# EAGLE library part 621X2021921 (library Board-to-Board (rev18a))
WR-PHD 2.00mm Dual SMT Pin Header, 20 Pins=>Code :WR-PHD_SMD_2,00mm_zweireihig621x2021921(packageing:x = 0: Tube x = 3: Tape & Reel with Cap) <http://katalog.we-online.de/media/images/eican/WR-PHD_SMD_2,00mm_zweireihig62103221921.jpg> 6210xx21921 Details see: http://katalog.we-online.de/en/em/621_0xx_219_21 6213xx21921 Details see: http://katalog.we-online.de/en/em/PHD_2_00_SMT_DUAL_PIN_HEADER_REEL_6213XX21921 2014 (C) Würth Elektronik
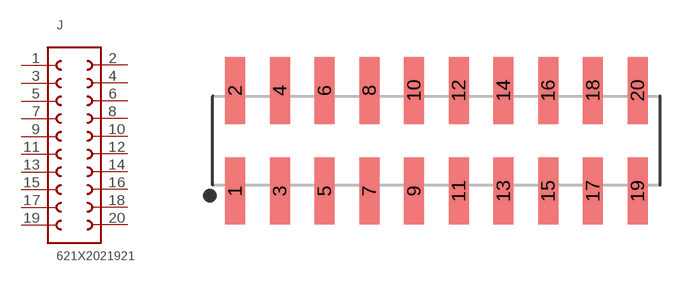
[diagram p236: symbol with the pads of 621X2021921; footprint 621X2021921]

Designator prefix J

## 621X2021921  [621X2021921]
1  1  pas
2  20  pas
3  2  pas
4  19  pas
5  3  pas
6  18  pas
7  4  pas
8  17  pas
9  5  pas
10  16  pas
11  6  pas
12  15  pas
13  7  pas
14  14  pas
15  8  pas
16  13  pas
17  9  pas
18  12  pas
19  10  pas
20  11  pas

## Footprint 621X2021921 (pad centres in mm)
WR-PHD 2.00mm Dual SMT Pin Header, 20 Pins
smd 0.89 x 3: 1 -9,-2.25; 2 -9,2.25; 3 -7,-2.25; 4 -7,2.25; 5 -5,-2.25; 6 -5,2.25; 7 -3,-2.25; 8 -3,2.25; 9 -1,-2.25; 10 -1,2.25; 11 1,-2.25; 12 1,2.25; 13 3,-2.25; 14 3,2.25; 15 5,-2.25; 16 5,2.25; 17 7,-2.25; 18 7,2.25; 19 9,-2.25; 20 9,2.25